# Altium footprint library SOD923.PcbLib: 1 footprints
Each footprint in its own frame and in the unit in brackets; x right, y up, seen from the top. Pads: shape width x height; smd on the part's side, far side on the other; paste and mask are expansions set on the pad; w line width, h text height; cw(c..) or ccw(c..) is an arc to the next point about the centre after c.
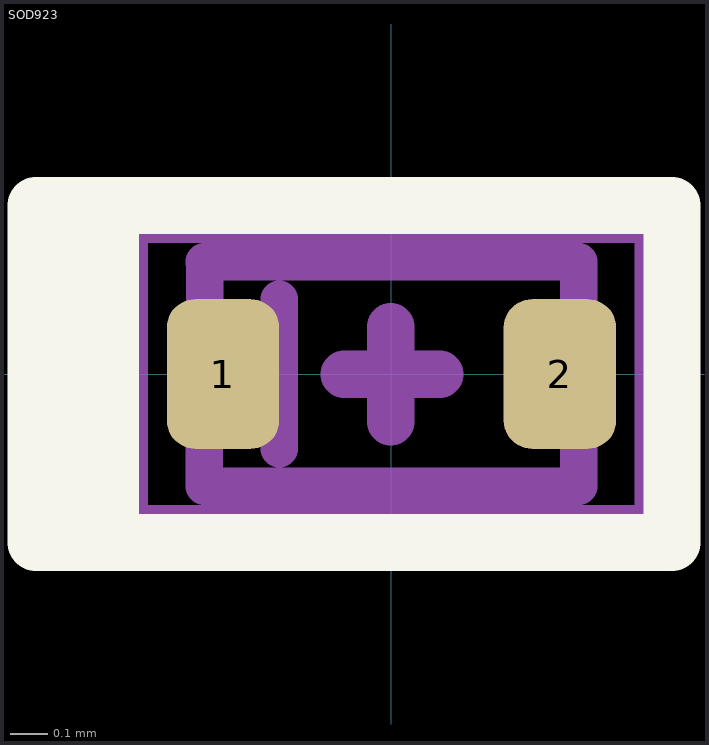
[diagram p0: the footprint, top view; thin cyan lines are the x and y axes]

## SOD923 [mm]
pads (2):
  rrect50% 0.3x0.4 smd: 1(-0.45,0) 2(0.45,0)
Top Overlay:
  lines w0.152: -0.85,-0.45 -0.85,0.45 ; -0.75,-0.45 -0.75,0.45 ; -0.95,-0.45 -0.95,0.45 0.75,0.45 0.75,-0.45 -0.95,-0.45
Top Assembly:
  lines w0.1: -0.3,-0.2 -0.3,0.2 ; -0.5,-0.3 0.5,-0.3 0.5,0.3 -0.5,0.3 -0.499,0.299 -0.5,-0.3
  text "'.Designator'" at -0.2,-0.2 h0.1
Top Courtyard:
  lines w0.1: -0.701,0.4 -0.7,-0.4 0.7,-0.4 0.7,0.4 -0.701,0.4
  lines w0.127: -0.125,0 0.129,0 ; -0.002,-0.128 -0.002,0.126
3D body "User Library-DIODE_SOD-923.step": height 0.43, standoff 0, extent -0.525,-0.325 0.525,0.325